# EAGLE library part 2X3-90 (library JLB6_Connec)
Embase 2 rangée de 3 avec corps
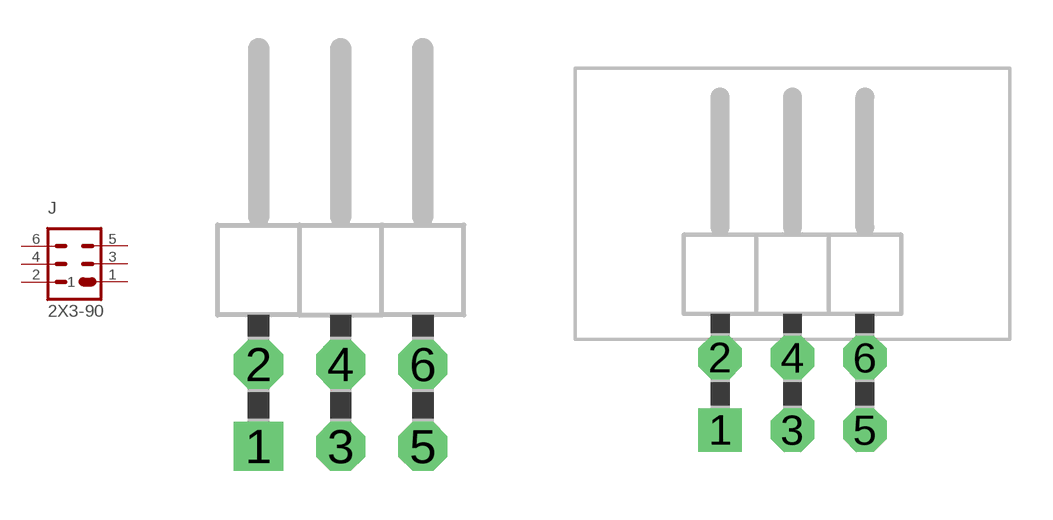
[diagram p2: symbol with the pads of 2X3-90; footprints 2X3-90, 2X3-90-B]

Designator prefix J

## 2X3-90SIMPLE  [2X3-90]
1  1  pas
2  2  pas
3  3  pas
4  4  pas
5  5  pas
6  6  pas

## 2X3-90CORPS  [2X3-90-B]
Pads as for 2X3-90

## 2X3-90EDGE  [2X3-EDGE-B]
Pads as for 2X3-90

## Footprint 2X3-90 (pad centres in mm)
drill 1.016 square: 1 -3.81,-1.27
drill 1.016 octagon: 2 -3.81,1.27; 3 -1.27,-1.27; 4 -1.27,1.27; 5 1.27,-1.27; 6 1.27,1.27

## Footprint 2X3-90-B (pad centres in mm)
drill 1.016 square: 1 -2.54,-1.27
drill 1.016 octagon: 2 -2.54,1.27; 3 0,-1.27; 4 0,1.27; 5 2.54,-1.27; 6 2.54,1.27

## Footprint 2X3-EDGE-B (pad centres in mm)
smd 1.7 x 3.2: 1 -2.54,-0.127; 3 0,-0.127; 5 2.54,-0.127
smd 1.7 x 3.2 bottom: 2 -2.54,-0.127; 4 0,-0.127; 6 2.54,-0.127